# Altium footprint library picr22RobodendronMainboard.PcbLib: 6 footprints
Each footprint in its own frame and in the unit in brackets; x right, y up, seen from the top. Pads: shape width x height; smd on the part's side, far side on the other; paste and mask are expansions set on the pad; w line width, h text height; cw(c..) or ccw(c..) is an arc to the next point about the centre after c.
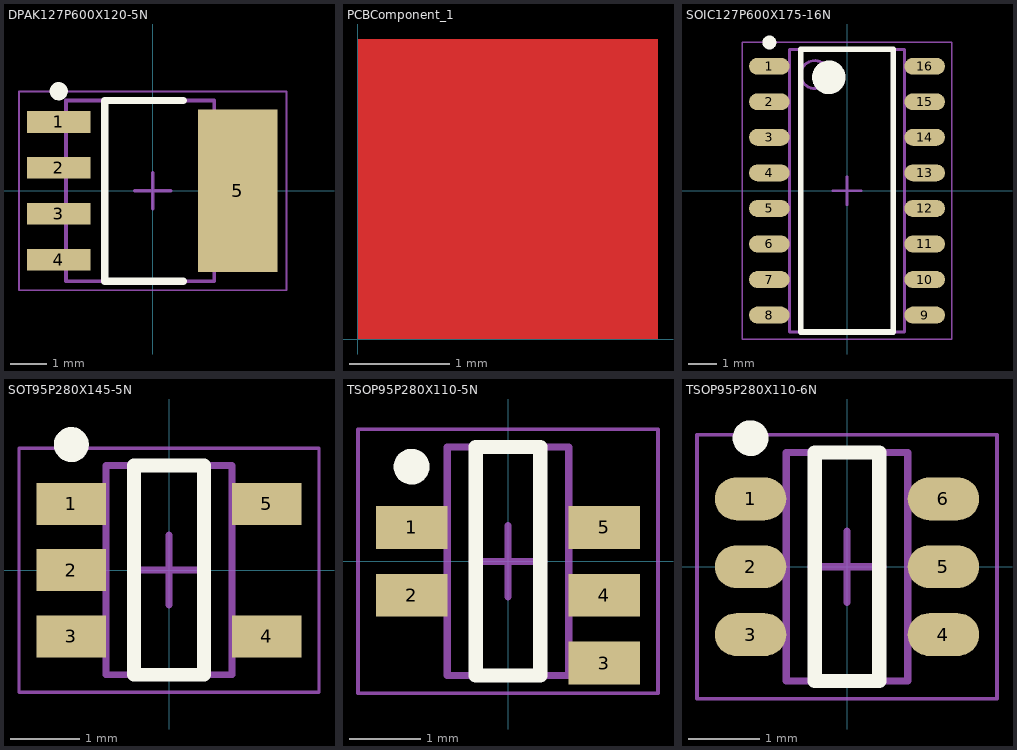
[diagram p0: the footprints below, top view; thin cyan lines are the x and y axes]

## DPAK127P600X120-5N [mm] "TO, 5-Pads, Body 5,15x5,86mm (max), IPC Medium Density"
height 1.2
pads (5):
  rect 1.75x0.6 smd: 1(-2.6,1.905) 2(-2.6,0.635) 3(-2.6,-0.635) 4(-2.6,-1.905)
  rect 2.2x4.5 smd: 5(2.35,0)
Top Overlay:
  circle w0.25: c-2.6,2.755 r0.125
  lines w0.2: 0.85,-2.5 -1.325,-2.5 -1.325,2.5 0.85,2.5
Mechanical 13:
  lines w0.1: -2.4,-2.5 1.7,-2.5 1.7,2.5 -2.4,2.5 -2.4,-2.5
Mechanical 15:
  lines w0.05: -3.7,-2.75 3.7,-2.75 3.7,2.75 -3.7,2.75 -3.7,-2.75
  lines w0.1: -0.5,0 0.5,0 ; 0,-0.5 0,0.5
3D body "DPAK127P600X120-5N.step": height 1.2, standoff 0, extent -3.05,-2.5 2.95,2.5

## PCBComponent_1 [mm]
Top Layer:
  rectangle: 0,0 3,3

## SOIC127P600X175-16N [mm] "SOIC, 16-Leads, Body 9,90x3,90mm, Pitch 1,27mm, IPC Medium Density"
height 1.75
pads (16):
  oval 1.45x0.6 smd: 1(-2.775,4.445) 2(-2.775,3.175) 3(-2.775,1.905) 4(-2.775,0.635) 5(-2.775,-0.635) 6(-2.775,-1.905) 7(-2.775,-3.175) 8(-2.775,-4.445) 9(2.775,-4.445) 10(2.775,-3.175) 11(2.775,-1.905) 12(2.775,-0.635) 13(2.775,0.635) 14(2.775,1.905) 15(2.775,3.175) 16(2.775,4.445)
Top Overlay:
  circle w0.6: c-0.65,4.05 r0.3
  circle w0.25: c-2.775,5.295 r0.125
  lines w0.2: -1.65,-5.05 1.65,-5.05 1.65,5.05 -1.65,5.05 -1.65,-5.05
Mechanical 13:
  circle w0.1: c-1.15,4.15 r0.5
  lines w0.1: -2.05,-5.05 2.05,-5.05 2.05,5.05 -2.05,5.05 -2.05,-5.05
Mechanical 15:
  lines w0.05: -3.75,-5.3 3.75,-5.3 3.75,5.3 -3.75,5.3 -3.75,-5.3
  lines w0.1: -0.5,0 0.5,0 ; 0,-0.5 0,0.5
3D body "SOIC127P600X175-16N.step": height 1.75, standoff 0, extent -3,-5.05 3,5.05

## SOT95P280X145-5N [mm] "SOT23, 5-Leads, Body 2,85x2,80mm, Pitch 0,95mm, IPC Medium Density"
height 1.45
pads (5):
  rect 1x0.6 smd: 1(-1.4,0.95) 2(-1.4,0) 3(-1.4,-0.95) 4(1.4,-0.95) 5(1.4,0.95)
Top Overlay:
  circle w0.25: c-1.4,1.8 r0.125
  lines w0.2: -0.5,-1.5 0.5,-1.5 0.5,1.5 -0.5,1.5 -0.5,-1.5
Mechanical 13:
  lines w0.1: -0.9,-1.5 -0.9,1.5 0.9,1.5 0.9,-1.5 -0.9,-1.5
Mechanical 15:
  lines w0.05: -2.15,-1.75 -2.15,1.75 2.15,1.75 2.15,-1.75 -2.15,-1.75
  lines w0.1: -0.5,0 0.5,0 ; 0,-0.5 0,0.5
3D body "SOT95P280X145-5N.step": height 1.45, standoff 0, extent -1.55,-1.5 1.55,1.5

## TSOP95P280X110-5N [mm] "TSOP, 5-Leads, Body 3,00x1,50mm, Pitch 0,95mm, IPC Medium Density"
height 1.1
pads (5):
  rect 1x0.6 smd: 1(-1.35,0.475) 2(-1.35,-0.475) 3(1.35,-1.425) 4(1.35,-0.475) 5(1.35,0.475)
Top Overlay:
  circle w0.25: c-1.35,1.325 r0.125
  lines w0.2: -0.45,-1.6 0.45,-1.6 0.45,1.6 -0.45,1.6 -0.45,-1.6
Mechanical 13:
  lines w0.1: -0.85,-1.6 0.85,-1.6 0.85,1.6 -0.85,1.6 -0.85,-1.6
Mechanical 15:
  lines w0.05: -2.1,-1.85 2.1,-1.85 2.1,1.85 -2.1,1.85 -2.1,-1.85
  lines w0.1: -0.5,0 0.5,0 ; 0,-0.5 0,0.5
3D body "TSOP95P280X110-5N.step": height 1.1, standoff 0, extent -1.375,-1.6 1.375,1.6

## TSOP95P280X110-6N [mm] "TSOP, 6-Leads, Body 3,00x1,50mm, Pitch 0,95mm, IPC Medium Density"
height 1.1
pads (6):
  oval 1x0.6 smd: 1(-1.35,0.95) 2(-1.35,0) 3(-1.35,-0.95) 4(1.35,-0.95) 5(1.35,0) 6(1.35,0.95)
Top Overlay:
  circle w0.25: c-1.35,1.8 r0.125
  lines w0.2: -0.45,-1.6 0.45,-1.6 0.45,1.6 -0.45,1.6 -0.45,-1.6
Mechanical 13:
  lines w0.1: -0.85,-1.6 0.85,-1.6 0.85,1.6 -0.85,1.6 -0.85,-1.6
Mechanical 15:
  lines w0.05: -2.1,-1.85 2.1,-1.85 2.1,1.85 -2.1,1.85 -2.1,-1.85
  lines w0.1: -0.5,0 0.5,0 ; 0,-0.5 0,0.5
3D body: height 1.1, standoff 0.1, extent -0.85,-1.6 0.85,1.6